# Altium schematic symbol library 4GLTE_GPS_SARA-R42X_UBL.SchLib: 2 symbols
Pins are listed as number, name and electrical type; pins without a type are passive.

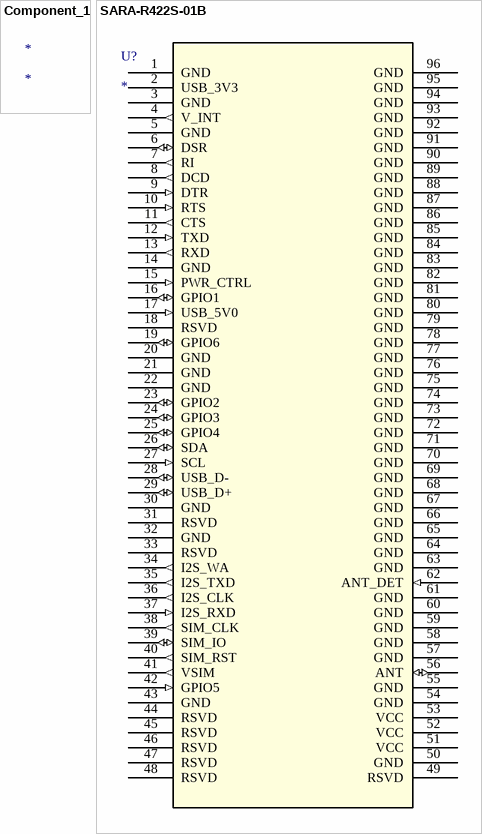
[diagram p0: symbols Component_1 to SARA-R422S-01B]

## Component_1
designator *

## SARA-R422S-01B
designator U?
No Description Available; Mfr_Name: Ublox; Type: RF; RefDes: RefDes
footprint SARA-R42X_UBL
pins: 1 GND (power), 2 USB_3V3 (power), 3 GND (power), 4 V_INT (out), 5 GND (power), 6 DSR (io), 7 RI (out), 8 DCD (out), 9 DTR (in), 10 RTS (in), 11 CTS (out), 12 TXD (in), 13 RXD (out), 14 GND (power), 15 PWR_CTRL (in), 16 GPIO1 (io), 17 USB_5V0 (in), 18 RSVD, 19 GPIO6 (io), 20 GND (power), 21 GND (power), 22 GND (power), 23 GPIO2 (io), 24 GPIO3 (io), 25 GPIO4 (io), 26 SDA (io), 27 SCL (in), 28 USB_D- (io), 29 USB_D+ (io), 30 GND (power), 31 RSVD, 32 GND (power), 33 RSVD, 34 I2S_WA (out), 35 I2S_TXD (out), 36 I2S_CLK (out), 37 I2S_RXD (in), 38 SIM_CLK (out), 39 SIM_IO (io), 40 SIM_RST (out), 41 VSIM (out), 42 GPIO5 (in), 43 GND (power), 44 RSVD, 45 RSVD, 46 RSVD, 47 RSVD, 48 RSVD, 49 RSVD, 50 GND (power), 51 VCC (power), 52 VCC (power), 53 VCC (power), 54 GND (power), 55 GND (power), 56 ANT (io), 57 GND (power), 58 GND (power), 59 GND (power), 60 GND (power), 61 GND (power), 62 ANT_DET (in), 63 GND (power), 64 GND (power), 65 GND (power), 66 GND (power), 67 GND (power), 68 GND (power), 69 GND (power), 70 GND (power), 71 GND (power), 72 GND (power), 73 GND (power), 74 GND (power), 75 GND (power), 76 GND (power), 77 GND (power), 78 GND (power), 79 GND (power), 80 GND (power), 81 GND (power), 82 GND (power), 83 GND (power), 84 GND (power), 85 GND (power), 86 GND (power), 87 GND (power), 88 GND (power), 89 GND (power), 90 GND (power), 91 GND (power), 92 GND (power), 93 GND (power), 94 GND (power), 95 GND (power), 96 GND (power)